# Altium schematic symbol library TC74A0-3.3VCTTR.SchLib: 1 symbol
Pins are listed as number, name and electrical type; pins without a type are passive.

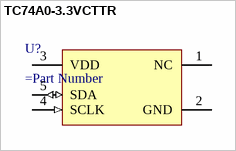
[diagram p0: symbol TC74A0-3.3VCTTR]

## TC74A0-3.3VCTTR
designator U?
=Description
pins: 1 NC, 2 GND (power), 3 VDD (power), 4 SCLK (in), 5 SDA (io)